# Altium footprint library DEMO_PCB_LIB.PcbLib: 7 footprints
Each footprint in its own frame and in the unit in brackets; x right, y up, seen from the top. Pads: shape width x height; smd on the part's side, far side on the other; paste and mask are expansions set on the pad; w line width, h text height; cw(c..) or ccw(c..) is an arc to the next point about the centre after c.
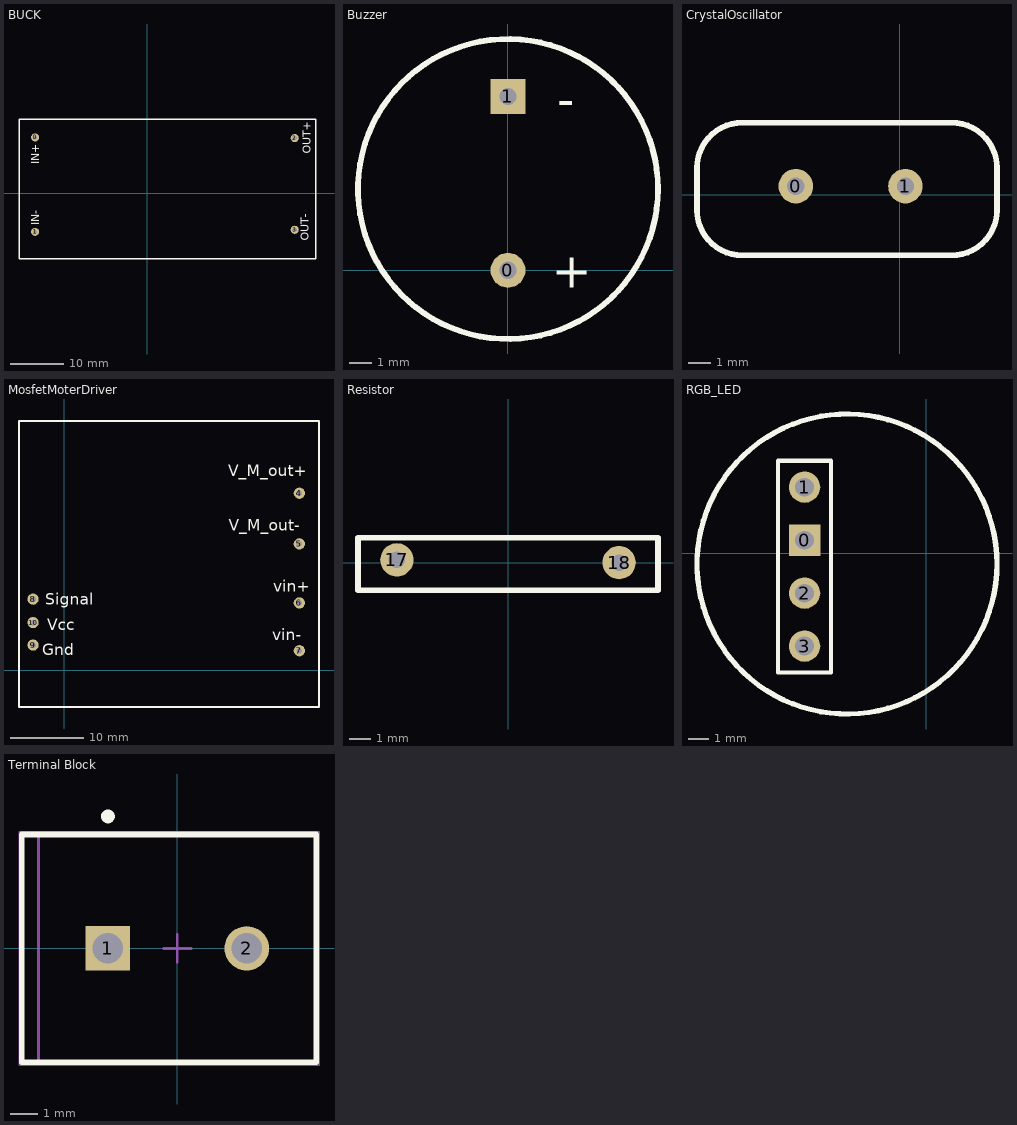
[diagram p0: the footprints below, top view; thin cyan lines are the x and y axes]

## BUCK [mil]
pads (4):
  round 60 hole 30: 0(-830.98,415) 1(-830.98,-285) 2(1095,410) 3(1095,-270)
Top Overlay:
  lines w10: -950,-485 1250,-485 1250,550 -950,550 -950,-485
  text "OUT-" at 1200,-350 h60
  text "IN-" at -800,-235 h60
  text "OUT+" at 1215,295 h60
  text "IN+" at -800,215 h60
Mechanical 1:
  text "'.Designator'" at -670,-465 h60
3D body "LM2596_Buck_Converter.stp": height 512.53, standoff -41.35, extent -700.66,-381.34 994.45,454.04

## Buzzer [mil]
pads (2):
  round 60 hole 30: 0(0,0)
  rect 60x60 hole 30: 1(0,299.21)
Top Overlay:
  circle w10: c0,140 r258.12
  text "-" at 85,265.01 h60
  text "+" at 75,-30 h60
Mechanical 1:
  text "'.Designator'" at -190,-90.01 h60
3D body "buzzer.stp": height 374.02, standoff -216.54, extent -236.18,-96.1 236.22,376.22

## CrystalOscillator [mil]
pads (2):
  round 60 hole 30: 0(-180,15) 1(10,15)
Top Overlay:
  lines w10: -351.26,-26.26 ccw(c-272.52,-26.26) -272.52,-105 90,-105 ccw(c90,-26.26) 168.74,-26.26 168.74,46.26 ccw(c90,46.26) 90,125 -272.52,125 ccw(c-272.52,46.26) -351.26,46.26 -351.26,-26.26
Mechanical 1:
  text "'.Designator'" at -215,-105.01 h60
3D body "crystal oscillator.STEP": height 138.3, standoff -117.61, extent -305.04,-76.54 130,106.54

## MosfetMoterDriver [mil]
pads (7):
  round 60 hole 30: 4(1255,945) 5(1255,675) 6(1255,360) 7(1255,105) 8(-165,380) 9(-165,135) 10(-165,255)
Top Overlay:
  lines w10: -240,-195 1360,-195 1360,1330 -240,1330 -240,-195
  text "V_M_out-" at 880,745 h60
  text "vin+" at 1115,420 h60
  text "vin-" at 1110,160 h60
  text "V_M_out+" at 875,1035 h60
  text "Signal" at -100,349.99 h60
  text "Gnd" at -115,80 h60
  text "Vcc" at -90,215 h60
3D body "MosfetBoard v6.step": height 971.89, standoff -70.94, extent -60.31,-115.94 1170,1215.94

## Resistor [mil]
pads (2):
  round 60 hole 30: 17(-200,5) 18(200,0)
Top Overlay:
  lines w10: -270,-50 270,-50 270,45 -270,45 -270,-50
Mechanical 1:
  text "'.Designator'" at -245,-120.01 h60
3D body "resistor.step": height 112.99, standoff -118.11, extent -209.84,-45.73 209.84,45.73

## RGB_LED [mm]
pads (4):
  rect 1.5x1.5 hole 0.9: 0(-5.842,0.635)
  round 1.5 hole 0.9: 1(-5.842,3.175) 2(-5.842,-1.905) 3(-5.842,-4.445)
Top Overlay:
  circle w0.254: c-3.81,-0.508 r7.19
  lines w0.2: -7.112,-5.715 -7.112,4.445 -4.572,4.445 -4.572,-5.715 -7.112,-5.715
Mechanical 1:
  text "'.Designator'" at -9.144,-4.064 h1.52
3D body "Led RGB 5mm.STEP": height 8.81, standoff -26.99, extent -3.937,-2.921 1.863,2.667

## Terminal Block [mm] "Female Header, Pitch 5mm, 1 x 2 Position, Height 10mm"
height 10
pads (2):
  rect 1.6x1.6 hole 1.1: 1(-2.5,0)
  round 1.6 hole 1.1: 2(2.5,0)
Top Overlay:
  circle w0.25: c-2.5,4.75 r0.125
  lines w0.2: -5.6,-4.1 5,-4.1 5,4.1 -5.6,4.1 -5.6,-4.1
Mechanical 13:
  lines w0.1: -5,-4.1 -5,4.1 5,4.1 5,-4.1 -5,-4.1
Mechanical 15:
  lines w0.05: -5.7,-4.2 -5.7,4.2 5.1,4.2 5.1,-4.2 -5.7,-4.2
  lines w0.1: -0.5,0 0.5,0 ; 0,-0.5 0,0.5
3D body "c-282836-2-h-3d.stp": height 10, standoff -3.5, extent -5.6,-4.1 5,4.1